# Altium schematic symbol library RED-LED.SchLib: 1 symbol
Pins are listed as number, name and electrical type; pins without a type are passive.

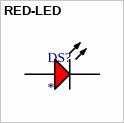
[diagram p0: symbol RED-LED]

## RED-LED
designator DS?
pins: 1 K, 2 A